# EAGLE library part ADA-800 (library 0_soofa_library)
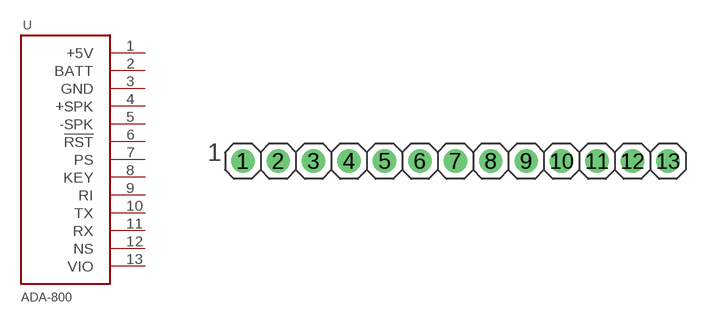
[diagram p9: symbol with the pads of 1X13-BIG; footprint 1X13-BIG]

Designator prefix -

## ADA-800  [1X13-BIG]
1  +5V
2  BATT
3  GND
4  +SPK
5  -SPK
6  !RST!
7  PS
8  KEY
9  RI
10  TX
11  RX
12  NS
13  VIO

## Footprint 1X13-BIG (pad centres in mm)
drill 1.016 pad 1.676: 1 -15.24,0; 2 -12.7,0; 3 -10.16,0; 4 -7.62,0; 5 -5.08,0; 6 -2.54,0; 7 0,0; 8 2.54,0; 9 5.08,0; 10 7.62,0; 11 10.16,0; 12 12.7,0; 13 15.24,0